# Altium schematic symbol library EEPROM_IC.SchLib: 1 symbol
Pins are listed as number, name and electrical type; pins without a type are passive.

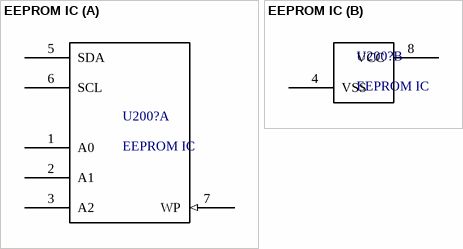
[diagram p0: symbol EEPROM IC]

## EEPROM IC
designator U200?
EEPROM 2K 256X8 SER EE 1.8V 18 I/O 10-BIT ADC; Manufacturer Part Number: 24AA024T-I/MNY; Manufacturer: Microchip Technology; Mouser Part Number: 579-24AA024T-I/MNY; MouserURL: https://www.mouser.com/ProductDetail/Microchip-Technology/24AA024T-I-MNY?qs=Gia6%252BsTQdYODIfKOLLxKRw%3D%3D
footprint *SON50P200X300X80-8N
part A pins: 1 A0, 2 A1, 3 A2, 5 SDA, 6 SCL, 7 WP (in)
part B pins: 4 VSS, 8 VCC